# Altium footprint library PcbLib1 .PcbLib: 30 footprints (part 2 of 2)
Each footprint in its own frame and in the unit in brackets; x right, y up, seen from the top. Pads: shape width x height; smd on the part's side, far side on the other; paste and mask are expansions set on the pad; w line width, h text height; cw(c..) or ccw(c..) is an arc to the next point about the centre after c.
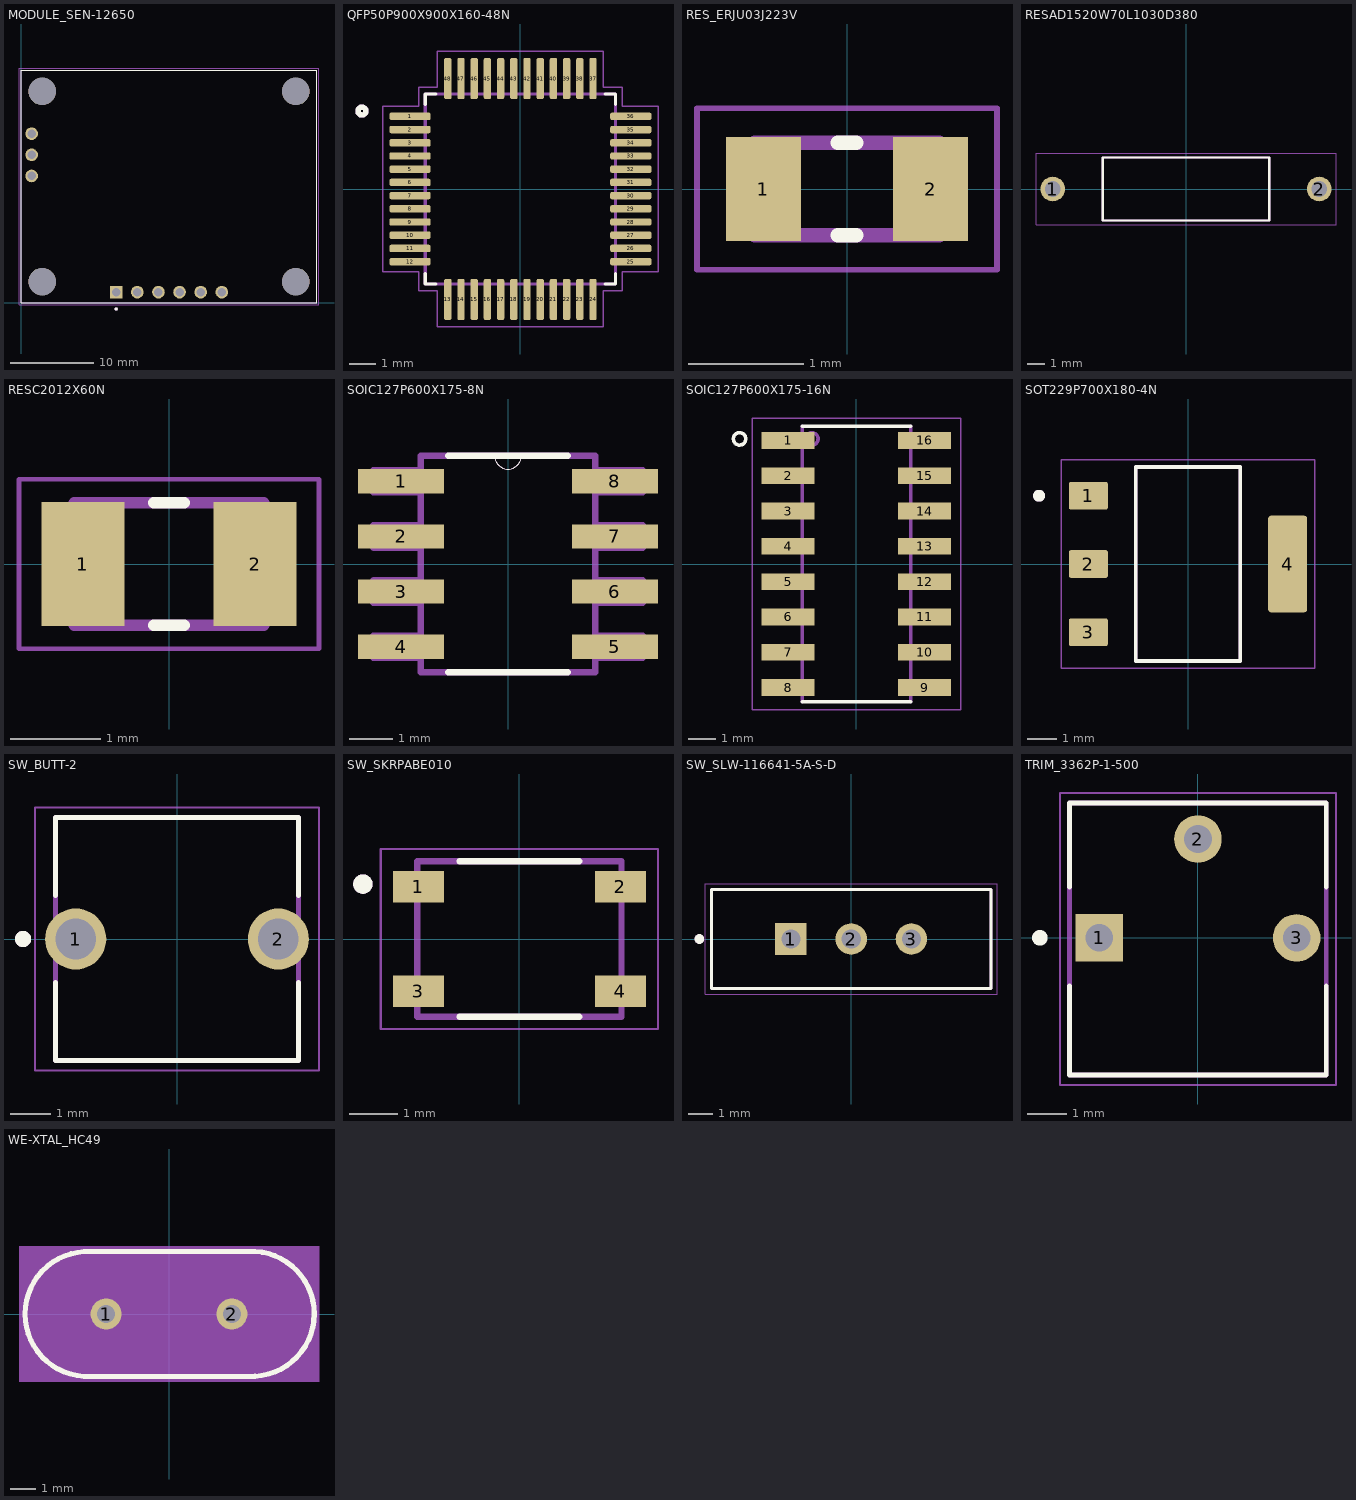
[diagram p1: the footprints below, top view; thin cyan lines are the x and y axes]

## MODULE_SEN-12650 [mil]
height 196.85
pads (13):
  round 60 hole 40: JP1_1(50,600) JP1_2(50,700) JP1_3(50,800) JP3_2(550,50) JP3_3(650,50) JP3_4(750,50) JP3_5(850,50) JP3_6(950,50)
  rect 60x60 / inner round 60 / far side rect 60x60 hole 40: JP3_1(450,50)
  round 130 hole 130 unplated: ""(100,100) ""(100,1000) ""(1300,100) ""(1300,1000)
Top Overlay:
  circle w7.87: c450,-29.53 r3.94
  lines w5: 0,0 1400,0 1400,1100 0,1100 0,0
Mechanical 13:
  circle w7.87: c450,-29.53 r3.94
  lines w5: 0,0 1400,0 1400,1100 0,1100 0,0
Mechanical 15:
  lines w1.97: -9.84,-9.84 1409.84,-9.84 1409.84,1109.84 -9.84,1109.84 -9.84,-9.84

## PCBComponent_1 [mm]

## QFP50P900X900X160-48N [mm]
pads (48):
  rrect50% 1.56x0.28 smd: 1(-4.18,2.75) 2(-4.18,2.25) 3(-4.18,1.75) 4(-4.18,1.25) 5(-4.18,0.75) 6(-4.18,0.25) 7(-4.18,-0.25) 8(-4.18,-0.75) 9(-4.18,-1.25) 10(-4.18,-1.75) 11(-4.18,-2.25) 12(-4.18,-2.75) 25(4.18,-2.75) 26(4.18,-2.25) 27(4.18,-1.75) 28(4.18,-1.25) 29(4.18,-0.75) 30(4.18,-0.25) 31(4.18,0.25) 32(4.18,0.75) 33(4.18,1.25) 34(4.18,1.75) 35(4.18,2.25) 36(4.18,2.75)
  rrect50% 0.28x1.56 smd: 13(-2.75,-4.18) 14(-2.25,-4.18) 15(-1.75,-4.18) 16(-1.25,-4.18) 17(-0.75,-4.18) 18(-0.25,-4.18) 19(0.25,-4.18) 20(0.75,-4.18) 21(1.25,-4.18) 22(1.75,-4.18) 23(2.25,-4.18) 24(2.75,-4.18) 37(2.75,4.18) 38(2.25,4.18) 39(1.75,4.18) 40(1.25,4.18) 41(0.75,4.18) 42(0.25,4.18) 43(-0.25,4.18) 44(-0.75,4.18) 45(-1.25,4.18) 46(-1.75,4.18) 47(-2.25,4.18) 48(-2.75,4.18)
Top Overlay:
  circle w0.2: c-6,2.95 r0.15
  lines w0.127: -3.6,-3.21 -3.6,-3.6 -3.21,-3.6 ; -3.6,3.21 -3.6,3.6 -3.21,3.6 ; 3.21,-3.6 3.6,-3.6 3.6,-3.21 ; 3.21,3.6 3.6,3.6 3.6,3.21
Mechanical 13:
  circle w0.2: c-6,2.95 r0.15
  lines w0.127: -3.6,-3.6 3.6,-3.6 3.6,3.6 -3.6,3.6 -3.6,-3.6
Mechanical 15:
  lines w0.05: -5.21,-3.14 -3.85,-3.14 -3.85,-3.85 -3.14,-3.85 -3.14,-5.21 3.14,-5.21 3.14,-3.85 3.85,-3.85 3.85,-3.14 5.21,-3.14 5.21,3.14 3.85,3.14 3.85,3.85 3.14,3.85 3.14,5.21 -3.14,5.21 -3.14,3.85 -3.85,3.85 -3.85,3.14 -5.21,3.14 -5.21,-3.14
3D body "step_temp.STEP": height 1.6, standoff 0, extent -4.5,-4.5 4.5,4.5

## RES_ERJU03J223V [mm]
height 0.45
pads (2):
  rect 0.65x0.9 smd: 1(-0.725,0) 2(0.725,0)
Top Overlay:
  lines w0.127: -0.08,-0.4 0.08,-0.4 ; -0.08,0.4 0.08,0.4
Mechanical 13:
  lines w0.127: -0.8,-0.4 -0.8,0.4 0.8,0.4 0.8,-0.4 -0.8,-0.4
Mechanical 15:
  lines w0.05: -1.3,-0.7 -1.3,0.7 1.3,0.7 1.3,-0.7 -1.3,-0.7
3D body "step_temp.STEP": height 0.45, standoff 0, extent -0.8,-0.4 0.8,0.4

## RESAD1520W70L1030D380 [mm]
height 3.8
pads (2):
  round 1.408 hole 0.9: 1(-7.6,0) 2(7.6,0)
Top Overlay:
  lines w0.127: -4.75,-1.8 -4.75,1.8 4.75,1.8 4.75,-1.8 -4.75,-1.8
Mechanical 13:
  lines w0.127: -4.75,-1.8 -4.75,1.8 4.75,1.8 4.75,-1.8 -4.75,-1.8
Mechanical 15:
  lines w0.05: -8.554,-2.05 8.554,-2.05 8.554,2.05 -8.554,2.05 -8.554,-2.05
3D body "step_temp.STEP": height 1.4, standoff -1.4, extent -2.67,-5.969 0.13,6.631

## RESC2012X60N [mm]
pads (2):
  rect 0.92x1.38 smd: 1(-0.955,0) 2(0.955,0)
Top Overlay:
  lines w0.127: -0.17,-0.68 0.17,-0.68 ; -0.17,0.68 0.17,0.68
Mechanical 13:
  lines w0.127: -1.05,-0.68 -1.05,0.68 1.05,0.68 1.05,-0.68 -1.05,-0.68
Mechanical 15:
  lines w0.05: -1.665,-0.94 -1.665,0.94 1.665,0.94 1.665,-0.94 -1.665,-0.94
3D body "step_temp.STEP": height 0.6, standoff 0, extent -1,-0.625 1,0.625

## SOIC127P600X175-8N [mil]
pads (8):
  rect 78x22 smd: 1(-97,75) 2(-97,25) 3(-97,-25) 4(-97,-75) 5(97,-75) 6(97,-25) 7(97,25) 8(97,75)
Top Overlay:
  lines w0: -12,98 ccw(c0,98) 12,98
  lines w6: -54,-98 54,-98 ; -54,98 -12,98 12,98 54,98
Mechanical 13:
  lines w0: -12,98 ccw(c0,98) 12,98
  lines w6: -122,-85 -79,-85 -79,-65 -122,-65 -122,-85 ; -122,-35 -79,-35 -79,-15 -122,-15 -122,-35 ; -122,15 -79,15 -79,35 -122,35 -122,15 ; -122,65 -79,65 -79,85 -122,85 -122,65 ; -79,-98 -79,98 -12,98 12,98 79,98 79,-98 -79,-98 ; 79,-85 122,-85 122,-65 79,-65 79,-85 ; 79,-35 122,-35 122,-15 79,-15 79,-35 ; 79,15 122,15 122,35 79,35 79,15 ; 79,65 122,65 122,85 79,85 79,65
3D body "step_temp.STEP": height 68.9, standoff 0, extent -118.11,-96.46 118.11,96.46

## SOIC127P600X175-16N [mm]
pads (16):
  rect 1.9x0.6 smd: 1(-2.455,4.445) 2(-2.455,3.175) 3(-2.455,1.905) 4(-2.455,0.635) 5(-2.455,-0.635) 6(-2.455,-1.905) 7(-2.455,-3.175) 8(-2.455,-4.445) 9(2.455,-4.445) 10(2.455,-3.175) 11(2.455,-1.905) 12(2.455,-0.635) 13(2.455,0.635) 14(2.455,1.905) 15(2.455,3.175) 16(2.455,4.445)
Top Overlay:
  circle w0.127: c-4.2,4.5 r0.224
  lines w0.127: -1.95,-4.95 1.95,-4.95 ; -1.95,4.95 1.95,4.95
Mechanical 13:
  circle w0.127: c-1.6,4.5 r0.224
  lines w0.127: -1.95,-4.95 -1.95,4.95 ; 1.95,-4.95 1.95,4.95
Mechanical 15:
  lines w0.05: -3.75,-5.25 3.75,-5.25 3.75,5.25 -3.75,5.25 -3.75,-5.25
3D body "step_temp.STEP": height 1.75, standoff 0, extent -3,-4.952 3,4.952

## SOT229P700X180-4N [mm]
height 1.8
pads (4):
  rrect15% 1.31x0.93 smd: 1(-3.345,2.29) 2(-3.345,0) 3(-3.345,-2.29)
  rrect15% 1.31x3.24 smd: 4(3.345,0)
Top Overlay:
  circle w0.2: c-5,2.29 r0.1
  lines w0.127: -1.753,-3.253 1.753,-3.253 1.753,3.253 -1.753,3.253 -1.753,-3.253
Mechanical 13:
  circle w0.2: c-5,2.29 r0.1
  lines w0.127: -1.753,-3.253 1.753,-3.253 1.753,3.253 -1.753,3.253 -1.753,-3.253
Mechanical 15:
  lines w0.05: -4.25,-3.502 -4.25,3.502 4.25,3.502 4.25,-3.502 -4.25,-3.502
3D body "step_temp.STEP": height 1.8, standoff 0, extent -3.251,-3.499 3.251,3.499

## SW_BUTT-2 [mm]
height 9.5
pads (2):
  round 1.508 hole 1: 1(-2.5,0) 2(2.5,0)
Top Overlay:
  circle w0.2: c-3.8,0 r0.1
  lines w0.127: -3,-1.075 -3,-3 3,-3 3,-1.075 ; -3,1.075 -3,3 3,3 3,1.075
Mechanical 13:
  circle w0.2: c-3.8,0 r0.1
  lines w0.127: -3,-3 -3,3 3,3 3,-3 -3,-3
Mechanical 15:
  lines w0.05: -3.504,-3.25 3.504,-3.25 3.504,3.25 -3.504,3.25 -3.504,-3.25

## SW_SKRPABE010 [mm]
height 2.5
pads (4):
  rect 1.05x0.65 smd: 1(-2.075,1.075) 2(2.075,1.075) 3(-2.075,-1.075) 4(2.075,-1.075)
Top Overlay:
  circle w0.2: c-3.218,1.13 r0.1
  lines w0.127: -1.23,-1.6 1.23,-1.6 ; -1.23,1.6 1.23,1.6
Mechanical 13:
  circle w0.2: c-3.218,1.13 r0.1
  lines w0.127: -2.1,-1.6 -2.1,1.6 2.1,1.6 2.1,-1.6 -2.1,-1.6
Mechanical 15:
  lines w0.05: -2.85,-1.85 2.85,-1.85 2.85,1.85 -2.85,1.85 -2.85,-1.85
3D body "step_temp.STEP": height 2.5, standoff 0, extent -2.3,-1.6 2.3,1.6

## SW_SLW-116641-5A-S-D [mm]
height 11
pads (3):
  rect 1.308x1.308 / inner round 1.308 / far side rect 1.308x1.308 hole 0.8: 1(-2.5,0)
  round 1.308 hole 0.8: 2(0,0) 3(2.5,0)
Top Overlay:
  circle w0.2: c-6.3,0 r0.1
  lines w0.127: -5.8,-2.05 -5.8,2.05 5.8,2.05 5.8,-2.05 -5.8,-2.05
Mechanical 13:
  circle w0.2: c-6.3,0 r0.1
  lines w0.127: -5.8,-2.05 5.8,-2.05 5.8,2.05 -5.8,2.05 -5.8,-2.05
Mechanical 15:
  lines w0.05: -6.05,-2.3 -6.05,2.3 6.05,2.3 6.05,-2.3 -6.05,-2.3
3D body "step_temp.STEP": height -6.01, standoff -20.31, extent -5.801,-2.032 5.801,2.068

## TRIM_3362P-1-500 [mm]
pads (3):
  rect 1.222x1.222 hole 0.714: 1(-2.54,0)
  round 1.222 hole 0.714: 2(0,2.54) 3(2.54,0)
Top Overlay:
  circle w0.2: c-4.064,0 r0.1
  lines w0.127: -3.3,-3.53 3.3,-3.53 ; -3.3,-3.52 -3.3,-1.235 ; -3.3,1.305 -3.3,3.47 3.3,3.47 3.3,1.305 ; 3.3,-3.52 3.3,-1.235
Mechanical 13:
  lines w0.127: -3.3,-3.53 3.3,-3.53 3.3,3.47 -3.3,3.47 -3.3,-3.53
Mechanical 15:
  lines w0.05: -3.55,-3.78 3.55,-3.78 3.55,3.72 -3.55,3.72 -3.55,-3.78
3D body "step_temp.STEP": height 4.88, standoff -5.84, extent -3.3,-3.495 3.3,3.495

## WE-XTAL_HC49 [mm]
pads (2):
  round 1.208 hole 0.7 mask+0.102: 1(-2.44,0) 2(2.44,0)
Top Overlay:
  lines w0.2: -3.3,-2.425 3.3,-2.425 ; -3.3,2.425 3.3,2.425 ; -3.292,2.421 ccw(c-3.165,0) -3.038,-2.421 ; 3.083,2.43 cw(c3.21,0.005) 3.337,-2.42
Mechanical 13:
  lines w0.1: -3.2,-1.845 3.2,-1.845 ; -3.2,1.845 3.2,1.845 ; -3.192,1.84 ccw(c-3.16,-0.005) -3.128,-1.85 ; 3.108,1.84 cw(c3.14,-0.005) 3.172,-1.85 ; -3.2,-2.325 cw(c-3.2,0) -3.2,2.325 3.2,2.325 cw(c3.2,0) 3.2,-2.325 -3.2,-2.325
Mechanical 15:
  region: 5.825,-2.625 -5.825,-2.625 -5.825,2.625 5.825,2.625